# Altium schematic symbol library Connectors - Barrel - Audio.SchLib: 3 symbols
Pins are listed as number, name and electrical type; pins without a type are passive.

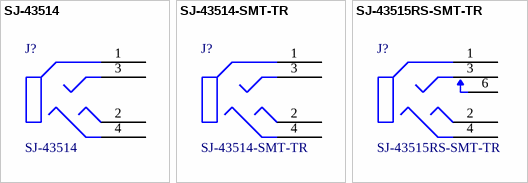
[diagram p0: symbols SJ-43514 to SJ-43515RS-SMT-TR]

## SJ-43514
designator J?
CONN JACK 4COND 3.5MM R/A; Manufacturer: CUI Devices; Actual Diameter: 0.142" (3.60mm); Connector Type: Phone Jack; Gender: Female; Industry Recognized Mating Diameter: 3.50mm (0.141", 1/8", Mini Plug) - Headphone; Internal Switch(s): Does Not Contain Switch; Number of Positions/Contacts: 4 Conductors, 4 Contacts; Shielding: Unshielded; Signal Lines: Stereo (4 Conductor, TRRS); Part Number: SJ-43514; ComponentLink1Description: Datasheet; ComponentLink1URL: https://www.cuidevices.com/product/resource/digikeypdf/sj-4351x.pdf; ComponentLink2Description: DigiKey Link; ComponentLink2URL: http://digikey.com/product-detail/en/cui-devices/SJ-43514/CP-43514-ND/368146; LastUpdated: 9/6/2020 11:27:36 AM; Lifecycle Status: Active; Minimum Order: 1; Mounting Type: Through Hole, Right Angle; Operating Temperature: -20°C ~ 85°C; Packaging: Tray; Part Status: Active; Price: 1.06; Series: SJ; Supplier 1: DigiKey; Supplier Part Number 1: CP-43514-ND; Termination: Solder
footprint CUI SJ-43514
pins: 1 SLEEVE, 2 TIP, 3 RING 1, 4 RING 2

## SJ-43514-SMT-TR
designator J?
CONN JACK 4COND 3.5MM SMD R/A; Manufacturer: CUI Devices; Actual Diameter: 0.142" (3.60mm); Connector Type: Phone Jack; Gender: Female; Industry Recognized Mating Diameter: 3.50mm (0.141", 1/8", Mini Plug) - Headphone; Internal Switch(s): Does Not Contain Switch; Number of Positions/Contacts: 4 Conductors, 4 Contacts; Shielding: Unshielded; Signal Lines: Stereo (4 Conductor, TRRS); Part Number: SJ-43514-SMT-TR; ComponentLink1Description: Datasheet; ComponentLink1URL: https://www.cuidevices.com/product/resource/digikeypdf/sj-4351x-smt.pdf; ComponentLink2Description: DigiKey Link; ComponentLink2URL: http://digikey.com/product-detail/en/cui-devices/SJ-43514-SMT-TR/CP-43514SJCT-ND/669734; Features: Board Guide; LastUpdated: 9/6/2020 11:26:53 AM; Lifecycle Status: Active; Minimum Order: 1; Mounting Type: Surface Mount, Right Angle; Operating Temperature: -20°C ~ 85°C; Packaging: TapeAndReel; Part Status: Active; Price: 0.58; Series: SJ; Supplier 1: DigiKey; Supplier Part Number 1: CP-43514SJCT-ND; Termination: Solder
footprint CUI SJ-43514-SMT-TR
pins: 1 SLEEVE, 2 TIP, 3 RING 1, 4 RING 2

## SJ-43515RS-SMT-TR
designator J?
CONN JACK 4COND 3.5MM SMD R/A; Manufacturer: CUI Devices; Actual Diameter: 0.142" (3.60mm); Connector Type: Phone Jack; Gender: Female; Industry Recognized Mating Diameter: 3.50mm (0.141", 1/8", Mini Plug) - Headphone; Internal Switch(s): Single Switch; Number of Positions/Contacts: 4 Conductors, 5 Contacts; Shielding: Unshielded; Signal Lines: Stereo (4 Conductor, TRRS); Part Number: SJ-43515RS-SMT-TR; ComponentLink1Description: Datasheet; ComponentLink1URL: https://www.cuidevices.com/product/resource/digikeypdf/sj-4351x-smt.pdf; ComponentLink2Description: DigiKey Link; ComponentLink2URL: http://digikey.com/product-detail/en/cui-devices/SJ-43515RS-SMT-TR/CP-43515RSSJCT-ND/669732; Features: Board Guide; LastUpdated: 9/6/2020 11:24:56 AM; Lifecycle Status: Active; Minimum Order: 1; Mounting Type: Surface Mount, Right Angle; Operating Temperature: -20°C ~ 85°C; Packaging: TapeAndReel; Part Status: Active; Price: 0.59; Series: SJ; Supplier 1: DigiKey; Supplier Part Number 1: CP-43515RSSJCT-ND; Termination: Solder
footprint CUI SJ-43515RS-SMT-TR
pins: 1 SLEEVE, 2 TIP, 3 RING 1, 4 RING 2, 6 TIP